# Altium schematic symbol library C-06036D106MAT2A.Schlib: 1 symbol
Pins are listed as number, name and electrical type; pins without a type are passive.

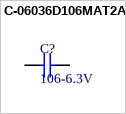
[diagram p0: symbol C-06036D106MAT2A]

## C-06036D106MAT2A
designator C?, comment 106-6.3V
Multilayer Ceramic Capacitors MLCC - SMD/SMT 6.3volts 10uF 20% X5R
pins: 1, 2